# Altium integrated library ST Memory EEPROM Parallel.IntLib: 295 symbols (part 1 of 7)
Pins are listed as number, name and electrical type; pins without a type are passive.

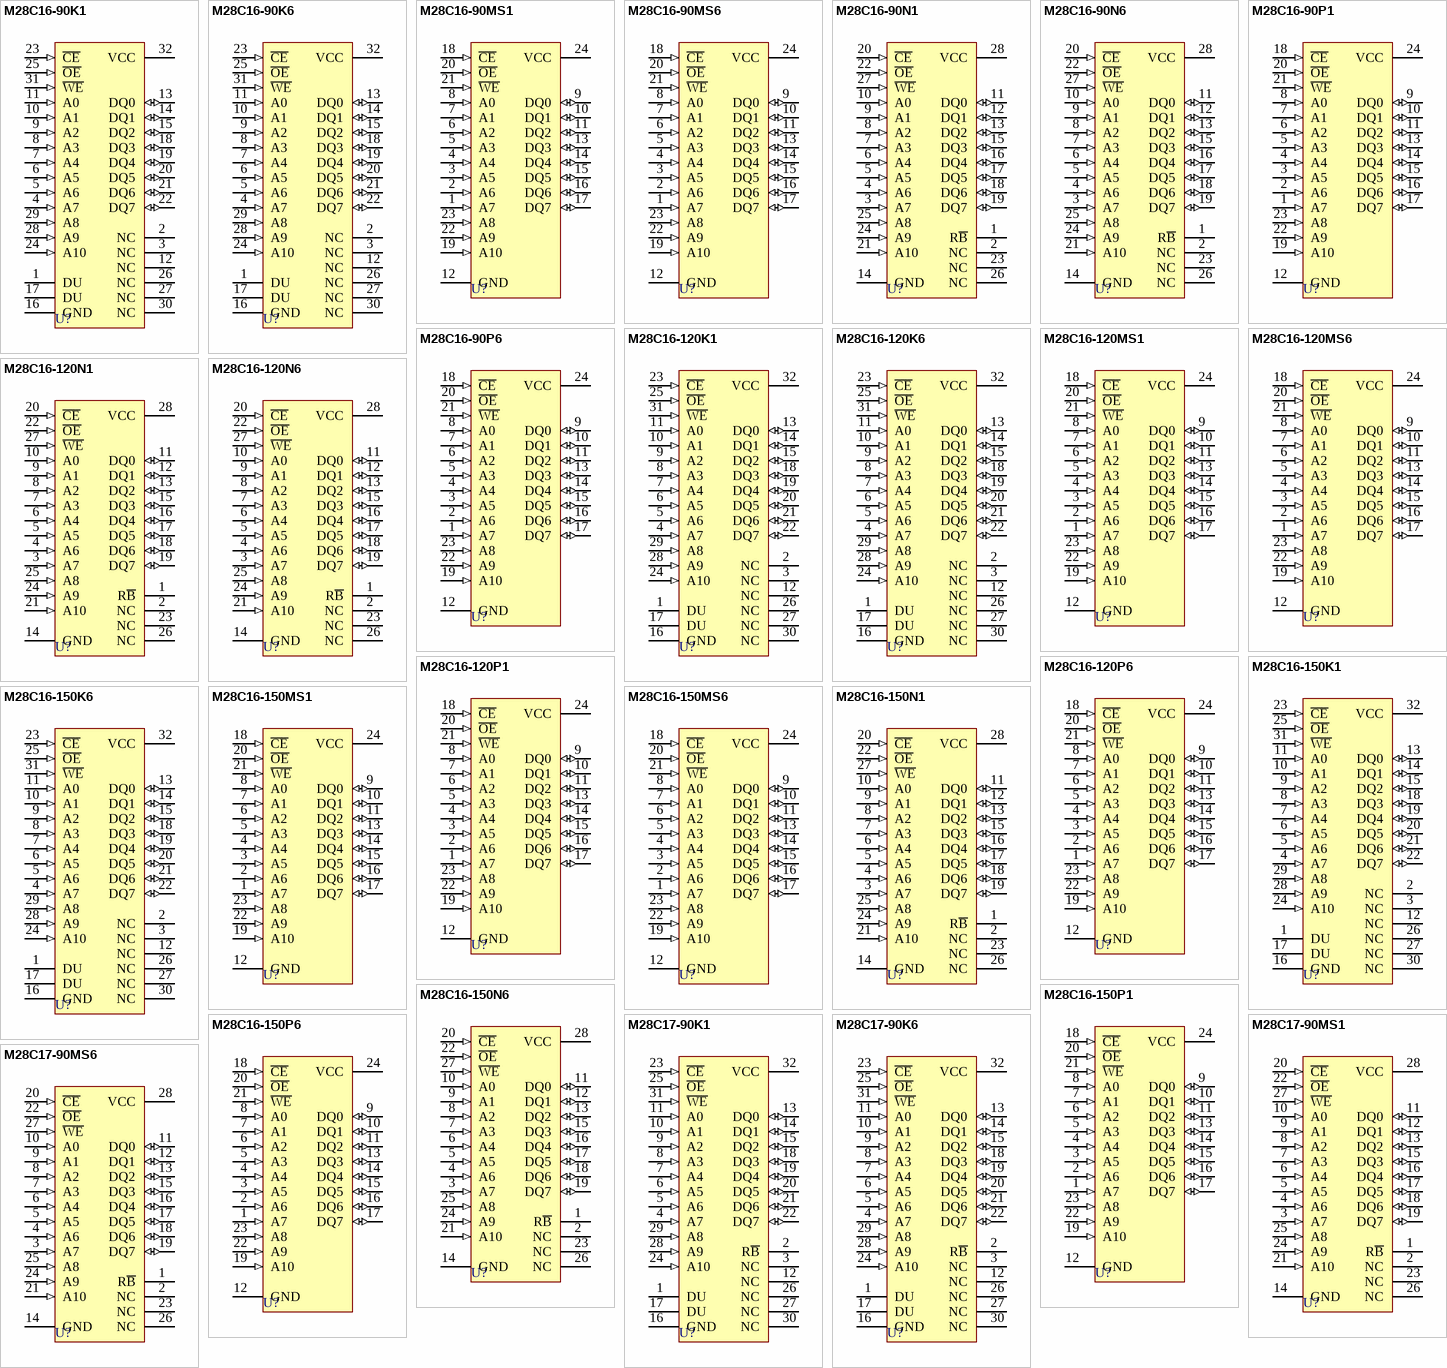
[diagram p0: symbols M28C16-90K1 to M28C17-90MS6]

## M28C16-90K1
designator U?
16K (2K x 8) Parallel EEPROM with Software Data Protection; Note: Do Not Use pins 1 and 17 (DU).; Published: 24-Aug-2001; LatestRevisionDate: 06-Jun-2005; LatestRevisionNote: Stylized 3D Model Added.; DatasheetVersion: Nov-1997; PackageVersion: Jun-1998; PackageReference: PLCC32; Publisher: Altium Limited; PackageDescription: Leaded Chip Carrier; 32 Leads; Body 11.5 x 14 mm; Code_JEDEC: MS-016-AE; Code_IPC: PLCC/R-32; ComponentLink1Description: Manufacturer Link; ComponentLink1URL: http://www.st.com/
footprint PLCC32 (Leaded Chip Carrier; 32 Leads; Body 11.5 x 14 mm)
3D model M28C16-PLCC32 (Leaded Chip Carrier; 32 Leads; Body 11.5 x 14 mm)
pins: 1 DU, 2 NC, 3 NC, 4 A7 (in), 5 A6 (in), 6 A5 (in), 7 A4 (in), 8 A3 (in), 9 A2 (in), 10 A1 (in), 11 A0 (in), 12 NC, 13 DQ0 (io), 14 DQ1 (io), 15 DQ2 (io), 16 GND (power), 17 DU, 18 DQ3 (io), 19 DQ4 (io), 20 DQ5 (io), 21 DQ6 (io), 22 DQ7 (io), 23 ~{CE} (in), 24 A10 (in), 25 ~{OE} (in), 26 NC, 27 NC, 28 A9 (in), 29 A8 (in), 30 NC, 31 ~{WE} (in), 32 VCC (power)

## M28C16-90K6
designator U?
16K (2K x 8) Parallel EEPROM with Software Data Protection; Note: Do Not Use pins 1 and 17 (DU).; Published: 24-Aug-2001; LatestRevisionDate: 06-Jun-2005; LatestRevisionNote: Stylized 3D Model Added.; DatasheetVersion: Nov-1997; PackageVersion: Jun-1998; PackageReference: PLCC32; Publisher: Altium Limited; PackageDescription: Leaded Chip Carrier; 32 Leads; Body 11.5 x 14 mm; Code_JEDEC: MS-016-AE; Code_IPC: PLCC/R-32; ComponentLink1Description: Manufacturer Link; ComponentLink1URL: http://www.st.com/
footprint PLCC32 (Leaded Chip Carrier; 32 Leads; Body 11.5 x 14 mm)
3D model M28C16-PLCC32 (Leaded Chip Carrier; 32 Leads; Body 11.5 x 14 mm)
pins: 1 DU, 2 NC, 3 NC, 4 A7 (in), 5 A6 (in), 6 A5 (in), 7 A4 (in), 8 A3 (in), 9 A2 (in), 10 A1 (in), 11 A0 (in), 12 NC, 13 DQ0 (io), 14 DQ1 (io), 15 DQ2 (io), 16 GND (power), 17 DU, 18 DQ3 (io), 19 DQ4 (io), 20 DQ5 (io), 21 DQ6 (io), 22 DQ7 (io), 23 ~{CE} (in), 24 A10 (in), 25 ~{OE} (in), 26 NC, 27 NC, 28 A9 (in), 29 A8 (in), 30 NC, 31 ~{WE} (in), 32 VCC (power)

## M28C16-90MS1
designator U?
16K (2K x 8) Parallel EEPROM with Software Data Protection; Published: 24-Aug-2001; LatestRevisionDate: 13-Apr-2006; LatestRevisionNote: IPC-7351 Footprint Added.; DatasheetVersion: Nov-1997; PackageVersion: Oct-2001; PackageReference: SO24; Publisher: Altium Limited; PackageDescription: 24-Pin Plastic Small Outline Integrated Circuit 1.27 mm Pitch; ComponentLink1Description: Manufacturer Link; ComponentLink1URL: http://www.st.com/
footprint SO24_N (SOIC, 24-Leads, Body 15.4x7.5mm, Pitch 1.27mm, IPC Medium Density)
footprint SO24_L (SOIC, 24-Leads, Body 15.4x7.5mm, Pitch 1.27mm, IPC High Density)
footprint SO24_M (SOIC, 24-Leads, Body 15.4x7.5mm, Pitch 1.27mm, IPC Low Density)
3D model SO24 (24-Pin Plastic Small Outline Integrated Circuit 1.27 mm Pitch)
pins: 1 A7 (in), 2 A6 (in), 3 A5 (in), 4 A4 (in), 5 A3 (in), 6 A2 (in), 7 A1 (in), 8 A0 (in), 9 DQ0 (io), 10 DQ1 (io), 11 DQ2 (io), 12 GND (power), 13 DQ3 (io), 14 DQ4 (io), 15 DQ5 (io), 16 DQ6 (io), 17 DQ7 (io), 18 ~{CE} (in), 19 A10 (in), 20 ~{OE} (in), 21 ~{WE} (in), 22 A9 (in), 23 A8 (in), 24 VCC (power)

## M28C16-90MS6
designator U?
16K (2K x 8) Parallel EEPROM with Software Data Protection; Published: 24-Aug-2001; LatestRevisionDate: 13-Apr-2006; LatestRevisionNote: IPC-7351 Footprint Added.; DatasheetVersion: Nov-1997; PackageVersion: Oct-2001; PackageReference: SO24; Publisher: Altium Limited; PackageDescription: 24-Pin Plastic Small Outline Integrated Circuit 1.27 mm Pitch; ComponentLink1Description: Manufacturer Link; ComponentLink1URL: http://www.st.com/
footprint SO24_N (SOIC, 24-Leads, Body 15.4x7.5mm, Pitch 1.27mm, IPC Medium Density)
footprint SO24_L (SOIC, 24-Leads, Body 15.4x7.5mm, Pitch 1.27mm, IPC High Density)
footprint SO24_M (SOIC, 24-Leads, Body 15.4x7.5mm, Pitch 1.27mm, IPC Low Density)
3D model SO24 (24-Pin Plastic Small Outline Integrated Circuit 1.27 mm Pitch)
pins: 1 A7 (in), 2 A6 (in), 3 A5 (in), 4 A4 (in), 5 A3 (in), 6 A2 (in), 7 A1 (in), 8 A0 (in), 9 DQ0 (io), 10 DQ1 (io), 11 DQ2 (io), 12 GND (power), 13 DQ3 (io), 14 DQ4 (io), 15 DQ5 (io), 16 DQ6 (io), 17 DQ7 (io), 18 ~{CE} (in), 19 A10 (in), 20 ~{OE} (in), 21 ~{WE} (in), 22 A9 (in), 23 A8 (in), 24 VCC (power)

## M28C16-90N1
designator U?
16K (2K x 8) Parallel EEPROM with Software Data Protection; Published: 24-Aug-2001; LatestRevisionDate: 06-Jun-2005; LatestRevisionNote: Stylized 3D Model Added.; DatasheetVersion: Nov-1997; PackageVersion: Jul-1998; PackageReference: TSOP28; Publisher: Altium Limited; PackageDescription: Shrink Small Outline, Plastic, Thin; 28 Leads; Body Width 11.8 mm; Pitch 0.55 mm; ComponentLink1Description: Manufacturer Link; ComponentLink1URL: http://www.st.com/
footprint TSOP28 (Shrink Small Outline, Plastic, Thin; 28 Leads; Body Width 11.8 mm; Pitch 0.55 mm)
3D model TSOP28 (Shrink Small Outline, Plastic, Thin; 28 Leads; Body Width 11.8 mm; Pitch 0.55 mm)
pins: 1 R~{B}, 2 NC, 3 A7 (in), 4 A6 (in), 5 A5 (in), 6 A4 (in), 7 A3 (in), 8 A2 (in), 9 A1 (in), 10 A0 (in), 11 DQ0 (io), 12 DQ1 (io), 13 DQ2 (io), 14 GND (power), 15 DQ3 (io), 16 DQ4 (io), 17 DQ5 (io), 18 DQ6 (io), 19 DQ7 (io), 20 ~{CE} (in), 21 A10 (in), 22 ~{OE} (in), 23 NC, 24 A9 (in), 25 A8 (in), 26 NC, 27 ~{WE} (in), 28 VCC (power)

## M28C16-90N6
designator U?
16K (2K x 8) Parallel EEPROM with Software Data Protection; Published: 24-Aug-2001; LatestRevisionDate: 06-Jun-2005; LatestRevisionNote: Stylized 3D Model Added.; DatasheetVersion: Nov-1997; PackageVersion: Jul-1998; PackageReference: TSOP28; Publisher: Altium Limited; PackageDescription: Shrink Small Outline, Plastic, Thin; 28 Leads; Body Width 11.8 mm; Pitch 0.55 mm; ComponentLink1Description: Manufacturer Link; ComponentLink1URL: http://www.st.com/
footprint TSOP28 (Shrink Small Outline, Plastic, Thin; 28 Leads; Body Width 11.8 mm; Pitch 0.55 mm)
3D model TSOP28 (Shrink Small Outline, Plastic, Thin; 28 Leads; Body Width 11.8 mm; Pitch 0.55 mm)
pins: 1 R~{B}, 2 NC, 3 A7 (in), 4 A6 (in), 5 A5 (in), 6 A4 (in), 7 A3 (in), 8 A2 (in), 9 A1 (in), 10 A0 (in), 11 DQ0 (io), 12 DQ1 (io), 13 DQ2 (io), 14 GND (power), 15 DQ3 (io), 16 DQ4 (io), 17 DQ5 (io), 18 DQ6 (io), 19 DQ7 (io), 20 ~{CE} (in), 21 A10 (in), 22 ~{OE} (in), 23 NC, 24 A9 (in), 25 A8 (in), 26 NC, 27 ~{WE} (in), 28 VCC (power)

## M28C16-90P1
designator U?
16K (2K x 8) Parallel EEPROM with Software Data Protection; Published: 24-Aug-2001; LatestRevisionDate: 06-Jun-2005; LatestRevisionNote: Stylized 3D Model Added.; DatasheetVersion: Nov-1997; PackageReference: PDIP24; Publisher: Altium Limited; PackageDescription: DIP; 24 Leads; Row Spacing 15.24 mm; Pitch 2.54 mm; ComponentLink1Description: Manufacturer Link; ComponentLink1URL: http://www.st.com/
footprint PDIP24 (DIP; 24 Leads; Row Spacing 15.24 mm; Pitch 2.54 mm)
3D model PDIP24 (DIP; 24 Leads; Row Spacing 15.24 mm; Pitch 2.54 mm)
pins: 1 A7 (in), 2 A6 (in), 3 A5 (in), 4 A4 (in), 5 A3 (in), 6 A2 (in), 7 A1 (in), 8 A0 (in), 9 DQ0 (io), 10 DQ1 (io), 11 DQ2 (io), 12 GND (power), 13 DQ3 (io), 14 DQ4 (io), 15 DQ5 (io), 16 DQ6 (io), 17 DQ7 (io), 18 ~{CE} (in), 19 A10 (in), 20 ~{OE} (in), 21 ~{WE} (in), 22 A9 (in), 23 A8 (in), 24 VCC (power)

## M28C16-90P6
designator U?
16K (2K x 8) Parallel EEPROM with Software Data Protection; Published: 24-Aug-2001; LatestRevisionDate: 06-Jun-2005; LatestRevisionNote: Stylized 3D Model Added.; DatasheetVersion: Nov-1997; PackageReference: PDIP24; Publisher: Altium Limited; PackageDescription: DIP; 24 Leads; Row Spacing 15.24 mm; Pitch 2.54 mm; ComponentLink1Description: Manufacturer Link; ComponentLink1URL: http://www.st.com/
footprint PDIP24 (DIP; 24 Leads; Row Spacing 15.24 mm; Pitch 2.54 mm)
3D model PDIP24 (DIP; 24 Leads; Row Spacing 15.24 mm; Pitch 2.54 mm)
pins: 1 A7 (in), 2 A6 (in), 3 A5 (in), 4 A4 (in), 5 A3 (in), 6 A2 (in), 7 A1 (in), 8 A0 (in), 9 DQ0 (io), 10 DQ1 (io), 11 DQ2 (io), 12 GND (power), 13 DQ3 (io), 14 DQ4 (io), 15 DQ5 (io), 16 DQ6 (io), 17 DQ7 (io), 18 ~{CE} (in), 19 A10 (in), 20 ~{OE} (in), 21 ~{WE} (in), 22 A9 (in), 23 A8 (in), 24 VCC (power)

## M28C16-120K1
designator U?
16K (2K x 8) Parallel EEPROM with Software Data Protection; Note: Do Not Use pins 1 and 17 (DU).; Published: 24-Aug-2001; LatestRevisionDate: 06-Jun-2005; LatestRevisionNote: Stylized 3D Model Added.; DatasheetVersion: Nov-1997; PackageVersion: Jun-1998; PackageReference: PLCC32; Publisher: Altium Limited; PackageDescription: Leaded Chip Carrier; 32 Leads; Body 11.5 x 14 mm; Code_JEDEC: MS-016-AE; Code_IPC: PLCC/R-32; ComponentLink1Description: Manufacturer Link; ComponentLink1URL: http://www.st.com/
footprint PLCC32 (Leaded Chip Carrier; 32 Leads; Body 11.5 x 14 mm)
3D model M28C16-PLCC32 (Leaded Chip Carrier; 32 Leads; Body 11.5 x 14 mm)
pins: 1 DU, 2 NC, 3 NC, 4 A7 (in), 5 A6 (in), 6 A5 (in), 7 A4 (in), 8 A3 (in), 9 A2 (in), 10 A1 (in), 11 A0 (in), 12 NC, 13 DQ0 (io), 14 DQ1 (io), 15 DQ2 (io), 16 GND (power), 17 DU, 18 DQ3 (io), 19 DQ4 (io), 20 DQ5 (io), 21 DQ6 (io), 22 DQ7 (io), 23 ~{CE} (in), 24 A10 (in), 25 ~{OE} (in), 26 NC, 27 NC, 28 A9 (in), 29 A8 (in), 30 NC, 31 ~{WE} (in), 32 VCC (power)

## M28C16-120K6
designator U?
16K (2K x 8) Parallel EEPROM with Software Data Protection; Note: Do Not Use pins 1 and 17 (DU).; Published: 24-Aug-2001; LatestRevisionDate: 06-Jun-2005; LatestRevisionNote: Stylized 3D Model Added.; DatasheetVersion: Nov-1997; PackageVersion: Jun-1998; PackageReference: PLCC32; Publisher: Altium Limited; PackageDescription: Leaded Chip Carrier; 32 Leads; Body 11.5 x 14 mm; Code_JEDEC: MS-016-AE; Code_IPC: PLCC/R-32; ComponentLink1Description: Manufacturer Link; ComponentLink1URL: http://www.st.com/
footprint PLCC32 (Leaded Chip Carrier; 32 Leads; Body 11.5 x 14 mm)
3D model M28C16-PLCC32 (Leaded Chip Carrier; 32 Leads; Body 11.5 x 14 mm)
pins: 1 DU, 2 NC, 3 NC, 4 A7 (in), 5 A6 (in), 6 A5 (in), 7 A4 (in), 8 A3 (in), 9 A2 (in), 10 A1 (in), 11 A0 (in), 12 NC, 13 DQ0 (io), 14 DQ1 (io), 15 DQ2 (io), 16 GND (power), 17 DU, 18 DQ3 (io), 19 DQ4 (io), 20 DQ5 (io), 21 DQ6 (io), 22 DQ7 (io), 23 ~{CE} (in), 24 A10 (in), 25 ~{OE} (in), 26 NC, 27 NC, 28 A9 (in), 29 A8 (in), 30 NC, 31 ~{WE} (in), 32 VCC (power)

## M28C16-120MS1
designator U?
16K (2K x 8) Parallel EEPROM with Software Data Protection; Published: 24-Aug-2001; LatestRevisionDate: 13-Apr-2006; LatestRevisionNote: IPC-7351 Footprint Added.; DatasheetVersion: Nov-1997; PackageVersion: Oct-2001; PackageReference: SO24; Publisher: Altium Limited; PackageDescription: 24-Pin Plastic Small Outline Integrated Circuit 1.27 mm Pitch; ComponentLink1Description: Manufacturer Link; ComponentLink1URL: http://www.st.com/
footprint SO24_N (SOIC, 24-Leads, Body 15.4x7.5mm, Pitch 1.27mm, IPC Medium Density)
footprint SO24_L (SOIC, 24-Leads, Body 15.4x7.5mm, Pitch 1.27mm, IPC High Density)
footprint SO24_M (SOIC, 24-Leads, Body 15.4x7.5mm, Pitch 1.27mm, IPC Low Density)
3D model SO24 (24-Pin Plastic Small Outline Integrated Circuit 1.27 mm Pitch)
pins: 1 A7 (in), 2 A6 (in), 3 A5 (in), 4 A4 (in), 5 A3 (in), 6 A2 (in), 7 A1 (in), 8 A0 (in), 9 DQ0 (io), 10 DQ1 (io), 11 DQ2 (io), 12 GND (power), 13 DQ3 (io), 14 DQ4 (io), 15 DQ5 (io), 16 DQ6 (io), 17 DQ7 (io), 18 ~{CE} (in), 19 A10 (in), 20 ~{OE} (in), 21 ~{WE} (in), 22 A9 (in), 23 A8 (in), 24 VCC (power)

## M28C16-120MS6
designator U?
16K (2K x 8) Parallel EEPROM with Software Data Protection; Published: 24-Aug-2001; LatestRevisionDate: 13-Apr-2006; LatestRevisionNote: IPC-7351 Footprint Added.; DatasheetVersion: Nov-1997; PackageVersion: Oct-2001; PackageReference: SO24; Publisher: Altium Limited; PackageDescription: 24-Pin Plastic Small Outline Integrated Circuit 1.27 mm Pitch; ComponentLink1Description: Manufacturer Link; ComponentLink1URL: http://www.st.com/
footprint SO24_N (SOIC, 24-Leads, Body 15.4x7.5mm, Pitch 1.27mm, IPC Medium Density)
footprint SO24_L (SOIC, 24-Leads, Body 15.4x7.5mm, Pitch 1.27mm, IPC High Density)
footprint SO24_M (SOIC, 24-Leads, Body 15.4x7.5mm, Pitch 1.27mm, IPC Low Density)
3D model SO24 (24-Pin Plastic Small Outline Integrated Circuit 1.27 mm Pitch)
pins: 1 A7 (in), 2 A6 (in), 3 A5 (in), 4 A4 (in), 5 A3 (in), 6 A2 (in), 7 A1 (in), 8 A0 (in), 9 DQ0 (io), 10 DQ1 (io), 11 DQ2 (io), 12 GND (power), 13 DQ3 (io), 14 DQ4 (io), 15 DQ5 (io), 16 DQ6 (io), 17 DQ7 (io), 18 ~{CE} (in), 19 A10 (in), 20 ~{OE} (in), 21 ~{WE} (in), 22 A9 (in), 23 A8 (in), 24 VCC (power)

## M28C16-120N1
designator U?
16K (2K x 8) Parallel EEPROM with Software Data Protection; Published: 24-Aug-2001; LatestRevisionDate: 06-Jun-2005; LatestRevisionNote: Stylized 3D Model Added.; DatasheetVersion: Nov-1997; PackageVersion: Jul-1998; PackageReference: TSOP28; Publisher: Altium Limited; PackageDescription: Shrink Small Outline, Plastic, Thin; 28 Leads; Body Width 11.8 mm; Pitch 0.55 mm; ComponentLink1Description: Manufacturer Link; ComponentLink1URL: http://www.st.com/
footprint TSOP28 (Shrink Small Outline, Plastic, Thin; 28 Leads; Body Width 11.8 mm; Pitch 0.55 mm)
3D model TSOP28 (Shrink Small Outline, Plastic, Thin; 28 Leads; Body Width 11.8 mm; Pitch 0.55 mm)
pins: 1 R~{B}, 2 NC, 3 A7 (in), 4 A6 (in), 5 A5 (in), 6 A4 (in), 7 A3 (in), 8 A2 (in), 9 A1 (in), 10 A0 (in), 11 DQ0 (io), 12 DQ1 (io), 13 DQ2 (io), 14 GND (power), 15 DQ3 (io), 16 DQ4 (io), 17 DQ5 (io), 18 DQ6 (io), 19 DQ7 (io), 20 ~{CE} (in), 21 A10 (in), 22 ~{OE} (in), 23 NC, 24 A9 (in), 25 A8 (in), 26 NC, 27 ~{WE} (in), 28 VCC (power)

## M28C16-120N6
designator U?
16K (2K x 8) Parallel EEPROM with Software Data Protection; Published: 24-Aug-2001; LatestRevisionDate: 06-Jun-2005; LatestRevisionNote: Stylized 3D Model Added.; DatasheetVersion: Nov-1997; PackageVersion: Jul-1998; PackageReference: TSOP28; Publisher: Altium Limited; PackageDescription: Shrink Small Outline, Plastic, Thin; 28 Leads; Body Width 11.8 mm; Pitch 0.55 mm; ComponentLink1Description: Manufacturer Link; ComponentLink1URL: http://www.st.com/
footprint TSOP28 (Shrink Small Outline, Plastic, Thin; 28 Leads; Body Width 11.8 mm; Pitch 0.55 mm)
3D model TSOP28 (Shrink Small Outline, Plastic, Thin; 28 Leads; Body Width 11.8 mm; Pitch 0.55 mm)
pins: 1 R~{B}, 2 NC, 3 A7 (in), 4 A6 (in), 5 A5 (in), 6 A4 (in), 7 A3 (in), 8 A2 (in), 9 A1 (in), 10 A0 (in), 11 DQ0 (io), 12 DQ1 (io), 13 DQ2 (io), 14 GND (power), 15 DQ3 (io), 16 DQ4 (io), 17 DQ5 (io), 18 DQ6 (io), 19 DQ7 (io), 20 ~{CE} (in), 21 A10 (in), 22 ~{OE} (in), 23 NC, 24 A9 (in), 25 A8 (in), 26 NC, 27 ~{WE} (in), 28 VCC (power)

## M28C16-120P1
designator U?
16K (2K x 8) Parallel EEPROM with Software Data Protection; Published: 24-Aug-2001; LatestRevisionDate: 06-Jun-2005; LatestRevisionNote: Stylized 3D Model Added.; DatasheetVersion: Nov-1997; PackageReference: PDIP24; Publisher: Altium Limited; PackageDescription: DIP; 24 Leads; Row Spacing 15.24 mm; Pitch 2.54 mm; ComponentLink1Description: Manufacturer Link; ComponentLink1URL: http://www.st.com/
footprint PDIP24 (DIP; 24 Leads; Row Spacing 15.24 mm; Pitch 2.54 mm)
3D model PDIP24 (DIP; 24 Leads; Row Spacing 15.24 mm; Pitch 2.54 mm)
pins: 1 A7 (in), 2 A6 (in), 3 A5 (in), 4 A4 (in), 5 A3 (in), 6 A2 (in), 7 A1 (in), 8 A0 (in), 9 DQ0 (io), 10 DQ1 (io), 11 DQ2 (io), 12 GND (power), 13 DQ3 (io), 14 DQ4 (io), 15 DQ5 (io), 16 DQ6 (io), 17 DQ7 (io), 18 ~{CE} (in), 19 A10 (in), 20 ~{OE} (in), 21 ~{WE} (in), 22 A9 (in), 23 A8 (in), 24 VCC (power)

## M28C16-120P6
designator U?
16K (2K x 8) Parallel EEPROM with Software Data Protection; Published: 24-Aug-2001; LatestRevisionDate: 06-Jun-2005; LatestRevisionNote: Stylized 3D Model Added.; DatasheetVersion: Nov-1997; PackageReference: PDIP24; Publisher: Altium Limited; PackageDescription: DIP; 24 Leads; Row Spacing 15.24 mm; Pitch 2.54 mm; ComponentLink1Description: Manufacturer Link; ComponentLink1URL: http://www.st.com/
footprint PDIP24 (DIP; 24 Leads; Row Spacing 15.24 mm; Pitch 2.54 mm)
3D model PDIP24 (DIP; 24 Leads; Row Spacing 15.24 mm; Pitch 2.54 mm)
pins: 1 A7 (in), 2 A6 (in), 3 A5 (in), 4 A4 (in), 5 A3 (in), 6 A2 (in), 7 A1 (in), 8 A0 (in), 9 DQ0 (io), 10 DQ1 (io), 11 DQ2 (io), 12 GND (power), 13 DQ3 (io), 14 DQ4 (io), 15 DQ5 (io), 16 DQ6 (io), 17 DQ7 (io), 18 ~{CE} (in), 19 A10 (in), 20 ~{OE} (in), 21 ~{WE} (in), 22 A9 (in), 23 A8 (in), 24 VCC (power)

## M28C16-150K1
designator U?
16K (2K x 8) Parallel EEPROM with Software Data Protection; Note: Do Not Use pins 1 and 17 (DU).; Published: 24-Aug-2001; LatestRevisionDate: 06-Jun-2005; LatestRevisionNote: Stylized 3D Model Added.; DatasheetVersion: Nov-1997; PackageVersion: Jun-1998; PackageReference: PLCC32; Publisher: Altium Limited; PackageDescription: Leaded Chip Carrier; 32 Leads; Body 11.5 x 14 mm; Code_JEDEC: MS-016-AE; Code_IPC: PLCC/R-32; ComponentLink1Description: Manufacturer Link; ComponentLink1URL: http://www.st.com/
footprint PLCC32 (Leaded Chip Carrier; 32 Leads; Body 11.5 x 14 mm)
3D model M28C16-PLCC32 (Leaded Chip Carrier; 32 Leads; Body 11.5 x 14 mm)
pins: 1 DU, 2 NC, 3 NC, 4 A7 (in), 5 A6 (in), 6 A5 (in), 7 A4 (in), 8 A3 (in), 9 A2 (in), 10 A1 (in), 11 A0 (in), 12 NC, 13 DQ0 (io), 14 DQ1 (io), 15 DQ2 (io), 16 GND (power), 17 DU, 18 DQ3 (io), 19 DQ4 (io), 20 DQ5 (io), 21 DQ6 (io), 22 DQ7 (io), 23 ~{CE} (in), 24 A10 (in), 25 ~{OE} (in), 26 NC, 27 NC, 28 A9 (in), 29 A8 (in), 30 NC, 31 ~{WE} (in), 32 VCC (power)

## M28C16-150K6
designator U?
16K (2K x 8) Parallel EEPROM with Software Data Protection; Note: Do Not Use pins 1 and 17 (DU).; Published: 24-Aug-2001; LatestRevisionDate: 06-Jun-2005; LatestRevisionNote: Stylized 3D Model Added.; DatasheetVersion: Nov-1997; PackageVersion: Jun-1998; PackageReference: PLCC32; Publisher: Altium Limited; PackageDescription: Leaded Chip Carrier; 32 Leads; Body 11.5 x 14 mm; Code_JEDEC: MS-016-AE; Code_IPC: PLCC/R-32; ComponentLink1Description: Manufacturer Link; ComponentLink1URL: http://www.st.com/
footprint PLCC32 (Leaded Chip Carrier; 32 Leads; Body 11.5 x 14 mm)
3D model M28C16-PLCC32 (Leaded Chip Carrier; 32 Leads; Body 11.5 x 14 mm)
pins: 1 DU, 2 NC, 3 NC, 4 A7 (in), 5 A6 (in), 6 A5 (in), 7 A4 (in), 8 A3 (in), 9 A2 (in), 10 A1 (in), 11 A0 (in), 12 NC, 13 DQ0 (io), 14 DQ1 (io), 15 DQ2 (io), 16 GND (power), 17 DU, 18 DQ3 (io), 19 DQ4 (io), 20 DQ5 (io), 21 DQ6 (io), 22 DQ7 (io), 23 ~{CE} (in), 24 A10 (in), 25 ~{OE} (in), 26 NC, 27 NC, 28 A9 (in), 29 A8 (in), 30 NC, 31 ~{WE} (in), 32 VCC (power)

## M28C16-150MS1
designator U?
16K (2K x 8) Parallel EEPROM with Software Data Protection; Published: 24-Aug-2001; LatestRevisionDate: 13-Apr-2006; LatestRevisionNote: IPC-7351 Footprint Added.; DatasheetVersion: Nov-1997; PackageVersion: Oct-2001; PackageReference: SO24; Publisher: Altium Limited; PackageDescription: 24-Pin Plastic Small Outline Integrated Circuit 1.27 mm Pitch; ComponentLink1Description: Manufacturer Link; ComponentLink1URL: http://www.st.com/
footprint SO24_N (SOIC, 24-Leads, Body 15.4x7.5mm, Pitch 1.27mm, IPC Medium Density)
footprint SO24_L (SOIC, 24-Leads, Body 15.4x7.5mm, Pitch 1.27mm, IPC High Density)
footprint SO24_M (SOIC, 24-Leads, Body 15.4x7.5mm, Pitch 1.27mm, IPC Low Density)
3D model SO24 (24-Pin Plastic Small Outline Integrated Circuit 1.27 mm Pitch)
pins: 1 A7 (in), 2 A6 (in), 3 A5 (in), 4 A4 (in), 5 A3 (in), 6 A2 (in), 7 A1 (in), 8 A0 (in), 9 DQ0 (io), 10 DQ1 (io), 11 DQ2 (io), 12 GND (power), 13 DQ3 (io), 14 DQ4 (io), 15 DQ5 (io), 16 DQ6 (io), 17 DQ7 (io), 18 ~{CE} (in), 19 A10 (in), 20 ~{OE} (in), 21 ~{WE} (in), 22 A9 (in), 23 A8 (in), 24 VCC (power)

## M28C16-150MS6
designator U?
16K (2K x 8) Parallel EEPROM with Software Data Protection; Published: 24-Aug-2001; LatestRevisionDate: 13-Apr-2006; LatestRevisionNote: IPC-7351 Footprint Added.; DatasheetVersion: Nov-1997; PackageVersion: Oct-2001; PackageReference: SO24; Publisher: Altium Limited; PackageDescription: 24-Pin Plastic Small Outline Integrated Circuit 1.27 mm Pitch; ComponentLink1Description: Manufacturer Link; ComponentLink1URL: http://www.st.com/
footprint SO24_N (SOIC, 24-Leads, Body 15.4x7.5mm, Pitch 1.27mm, IPC Medium Density)
footprint SO24_L (SOIC, 24-Leads, Body 15.4x7.5mm, Pitch 1.27mm, IPC High Density)
footprint SO24_M (SOIC, 24-Leads, Body 15.4x7.5mm, Pitch 1.27mm, IPC Low Density)
3D model SO24 (24-Pin Plastic Small Outline Integrated Circuit 1.27 mm Pitch)
pins: 1 A7 (in), 2 A6 (in), 3 A5 (in), 4 A4 (in), 5 A3 (in), 6 A2 (in), 7 A1 (in), 8 A0 (in), 9 DQ0 (io), 10 DQ1 (io), 11 DQ2 (io), 12 GND (power), 13 DQ3 (io), 14 DQ4 (io), 15 DQ5 (io), 16 DQ6 (io), 17 DQ7 (io), 18 ~{CE} (in), 19 A10 (in), 20 ~{OE} (in), 21 ~{WE} (in), 22 A9 (in), 23 A8 (in), 24 VCC (power)

## M28C16-150N1
designator U?
16K (2K x 8) Parallel EEPROM with Software Data Protection; Published: 24-Aug-2001; LatestRevisionDate: 06-Jun-2005; LatestRevisionNote: Stylized 3D Model Added.; DatasheetVersion: Nov-1997; PackageVersion: Jul-1998; PackageReference: TSOP28; Publisher: Altium Limited; PackageDescription: Shrink Small Outline, Plastic, Thin; 28 Leads; Body Width 11.8 mm; Pitch 0.55 mm; ComponentLink1Description: Manufacturer Link; ComponentLink1URL: http://www.st.com/
footprint TSOP28 (Shrink Small Outline, Plastic, Thin; 28 Leads; Body Width 11.8 mm; Pitch 0.55 mm)
3D model TSOP28 (Shrink Small Outline, Plastic, Thin; 28 Leads; Body Width 11.8 mm; Pitch 0.55 mm)
pins: 1 R~{B}, 2 NC, 3 A7 (in), 4 A6 (in), 5 A5 (in), 6 A4 (in), 7 A3 (in), 8 A2 (in), 9 A1 (in), 10 A0 (in), 11 DQ0 (io), 12 DQ1 (io), 13 DQ2 (io), 14 GND (power), 15 DQ3 (io), 16 DQ4 (io), 17 DQ5 (io), 18 DQ6 (io), 19 DQ7 (io), 20 ~{CE} (in), 21 A10 (in), 22 ~{OE} (in), 23 NC, 24 A9 (in), 25 A8 (in), 26 NC, 27 ~{WE} (in), 28 VCC (power)

## M28C16-150N6
designator U?
16K (2K x 8) Parallel EEPROM with Software Data Protection; Published: 24-Aug-2001; LatestRevisionDate: 06-Jun-2005; LatestRevisionNote: Stylized 3D Model Added.; DatasheetVersion: Nov-1997; PackageVersion: Jul-1998; PackageReference: TSOP28; Publisher: Altium Limited; PackageDescription: Shrink Small Outline, Plastic, Thin; 28 Leads; Body Width 11.8 mm; Pitch 0.55 mm; ComponentLink1Description: Manufacturer Link; ComponentLink1URL: http://www.st.com/
footprint TSOP28 (Shrink Small Outline, Plastic, Thin; 28 Leads; Body Width 11.8 mm; Pitch 0.55 mm)
3D model TSOP28 (Shrink Small Outline, Plastic, Thin; 28 Leads; Body Width 11.8 mm; Pitch 0.55 mm)
pins: 1 R~{B}, 2 NC, 3 A7 (in), 4 A6 (in), 5 A5 (in), 6 A4 (in), 7 A3 (in), 8 A2 (in), 9 A1 (in), 10 A0 (in), 11 DQ0 (io), 12 DQ1 (io), 13 DQ2 (io), 14 GND (power), 15 DQ3 (io), 16 DQ4 (io), 17 DQ5 (io), 18 DQ6 (io), 19 DQ7 (io), 20 ~{CE} (in), 21 A10 (in), 22 ~{OE} (in), 23 NC, 24 A9 (in), 25 A8 (in), 26 NC, 27 ~{WE} (in), 28 VCC (power)

## M28C16-150P1
designator U?
16K (2K x 8) Parallel EEPROM with Software Data Protection; Published: 24-Aug-2001; LatestRevisionDate: 06-Jun-2005; LatestRevisionNote: Stylized 3D Model Added.; DatasheetVersion: Nov-1997; PackageReference: PDIP24; Publisher: Altium Limited; PackageDescription: DIP; 24 Leads; Row Spacing 15.24 mm; Pitch 2.54 mm; ComponentLink1Description: Manufacturer Link; ComponentLink1URL: http://www.st.com/
footprint PDIP24 (DIP; 24 Leads; Row Spacing 15.24 mm; Pitch 2.54 mm)
3D model PDIP24 (DIP; 24 Leads; Row Spacing 15.24 mm; Pitch 2.54 mm)
pins: 1 A7 (in), 2 A6 (in), 3 A5 (in), 4 A4 (in), 5 A3 (in), 6 A2 (in), 7 A1 (in), 8 A0 (in), 9 DQ0 (io), 10 DQ1 (io), 11 DQ2 (io), 12 GND (power), 13 DQ3 (io), 14 DQ4 (io), 15 DQ5 (io), 16 DQ6 (io), 17 DQ7 (io), 18 ~{CE} (in), 19 A10 (in), 20 ~{OE} (in), 21 ~{WE} (in), 22 A9 (in), 23 A8 (in), 24 VCC (power)

## M28C16-150P6
designator U?
16K (2K x 8) Parallel EEPROM with Software Data Protection; Published: 24-Aug-2001; LatestRevisionDate: 06-Jun-2005; LatestRevisionNote: Stylized 3D Model Added.; DatasheetVersion: Nov-1997; PackageReference: PDIP24; Publisher: Altium Limited; PackageDescription: DIP; 24 Leads; Row Spacing 15.24 mm; Pitch 2.54 mm; ComponentLink1Description: Manufacturer Link; ComponentLink1URL: http://www.st.com/
footprint PDIP24 (DIP; 24 Leads; Row Spacing 15.24 mm; Pitch 2.54 mm)
3D model PDIP24 (DIP; 24 Leads; Row Spacing 15.24 mm; Pitch 2.54 mm)
pins: 1 A7 (in), 2 A6 (in), 3 A5 (in), 4 A4 (in), 5 A3 (in), 6 A2 (in), 7 A1 (in), 8 A0 (in), 9 DQ0 (io), 10 DQ1 (io), 11 DQ2 (io), 12 GND (power), 13 DQ3 (io), 14 DQ4 (io), 15 DQ5 (io), 16 DQ6 (io), 17 DQ7 (io), 18 ~{CE} (in), 19 A10 (in), 20 ~{OE} (in), 21 ~{WE} (in), 22 A9 (in), 23 A8 (in), 24 VCC (power)

## M28C17-90K1
designator U?
16K (2K x 8) Parallel EEPROM with Software Data Protection; Note: Do Not Use pins 1 and 17 (DU).; Published: 24-Aug-2001; LatestRevisionDate: 06-Jun-2005; LatestRevisionNote: Stylized 3D Model Added.; DatasheetVersion: Nov-1997; PackageVersion: Jun-1998; PackageReference: PLCC32; Publisher: Altium Limited; PackageDescription: Leaded Chip Carrier; 32 Leads; Body 11.5 x 14 mm; Code_JEDEC: MS-016-AE; Code_IPC: PLCC/R-32; ComponentLink1Description: Manufacturer Link; ComponentLink1URL: http://www.st.com/
footprint PLCC32 (Leaded Chip Carrier; 32 Leads; Body 11.5 x 14 mm)
3D model M28C17-PLCC32 (Leaded Chip Carrier; 32 Leads; Body 11.5 x 14 mm)
pins: 1 DU, 2 R~{B}, 3 NC, 4 A7 (in), 5 A6 (in), 6 A5 (in), 7 A4 (in), 8 A3 (in), 9 A2 (in), 10 A1 (in), 11 A0 (in), 12 NC, 13 DQ0 (io), 14 DQ1 (io), 15 DQ2 (io), 16 GND (power), 17 DU, 18 DQ3 (io), 19 DQ4 (io), 20 DQ5 (io), 21 DQ6 (io), 22 DQ7 (io), 23 ~{CE} (in), 24 A10 (in), 25 ~{OE} (in), 26 NC, 27 NC, 28 A9 (in), 29 A8 (in), 30 NC, 31 ~{WE} (in), 32 VCC (power)

## M28C17-90K6
designator U?
16K (2K x 8) Parallel EEPROM with Software Data Protection; Note: Do Not Use pins 1 and 17 (DU).; Published: 24-Aug-2001; LatestRevisionDate: 06-Jun-2005; LatestRevisionNote: Stylized 3D Model Added.; DatasheetVersion: Nov-1997; PackageVersion: Jun-1998; PackageReference: PLCC32; Publisher: Altium Limited; PackageDescription: Leaded Chip Carrier; 32 Leads; Body 11.5 x 14 mm; Code_JEDEC: MS-016-AE; Code_IPC: PLCC/R-32; ComponentLink1Description: Manufacturer Link; ComponentLink1URL: http://www.st.com/
footprint PLCC32 (Leaded Chip Carrier; 32 Leads; Body 11.5 x 14 mm)
3D model M28C17-PLCC32 (Leaded Chip Carrier; 32 Leads; Body 11.5 x 14 mm)
pins: 1 DU, 2 R~{B}, 3 NC, 4 A7 (in), 5 A6 (in), 6 A5 (in), 7 A4 (in), 8 A3 (in), 9 A2 (in), 10 A1 (in), 11 A0 (in), 12 NC, 13 DQ0 (io), 14 DQ1 (io), 15 DQ2 (io), 16 GND (power), 17 DU, 18 DQ3 (io), 19 DQ4 (io), 20 DQ5 (io), 21 DQ6 (io), 22 DQ7 (io), 23 ~{CE} (in), 24 A10 (in), 25 ~{OE} (in), 26 NC, 27 NC, 28 A9 (in), 29 A8 (in), 30 NC, 31 ~{WE} (in), 32 VCC (power)

## M28C17-90MS1
designator U?
16K (2K x 8) Parallel EEPROM with Software Data Protection; Published: 24-Aug-2001; LatestRevisionDate: 13-Apr-2006; LatestRevisionNote: IPC-7351 Footprint Added.; DatasheetVersion: Nov-1997; PackageVersion: Jul-2001; PackageReference: SO28; Publisher: Altium Limited; PackageDescription: 28-Pin Plastic Small Outline Integrated Circuit 1.27 mm Pitch; ComponentLink1Description: Manufacturer Link; ComponentLink1URL: http://www.st.com/
footprint SO28_N (SOIC, 28-Leads, Body 17.9x7.5mm, Pitch 1.27mm, IPC Medium Density)
footprint SO28_L (SOIC, 28-Leads, Body 17.9x7.5mm, Pitch 1.27mm, IPC High Density)
footprint SO28_M (SOIC, 28-Leads, Body 17.9x7.5mm, Pitch 1.27mm, IPC Low Density)
3D model SO28 (28-Pin Plastic Small Outline Integrated Circuit 1.27 mm Pitch)
pins: 1 R~{B}, 2 NC, 3 A7 (in), 4 A6 (in), 5 A5 (in), 6 A4 (in), 7 A3 (in), 8 A2 (in), 9 A1 (in), 10 A0 (in), 11 DQ0 (io), 12 DQ1 (io), 13 DQ2 (io), 14 GND (power), 15 DQ3 (io), 16 DQ4 (io), 17 DQ5 (io), 18 DQ6 (io), 19 DQ7 (io), 20 ~{CE} (in), 21 A10 (in), 22 ~{OE} (in), 23 NC, 24 A9 (in), 25 A8 (in), 26 NC, 27 ~{WE} (in), 28 VCC (power)

## M28C17-90MS6
designator U?
16K (2K x 8) Parallel EEPROM with Software Data Protection; Published: 24-Aug-2001; LatestRevisionDate: 13-Apr-2006; LatestRevisionNote: IPC-7351 Footprint Added.; DatasheetVersion: Nov-1997; PackageVersion: Jul-2001; PackageReference: SO28; Publisher: Altium Limited; PackageDescription: 28-Pin Plastic Small Outline Integrated Circuit 1.27 mm Pitch; ComponentLink1Description: Manufacturer Link; ComponentLink1URL: http://www.st.com/
footprint SO28_N (SOIC, 28-Leads, Body 17.9x7.5mm, Pitch 1.27mm, IPC Medium Density)
footprint SO28_L (SOIC, 28-Leads, Body 17.9x7.5mm, Pitch 1.27mm, IPC High Density)
footprint SO28_M (SOIC, 28-Leads, Body 17.9x7.5mm, Pitch 1.27mm, IPC Low Density)
3D model SO28 (28-Pin Plastic Small Outline Integrated Circuit 1.27 mm Pitch)
pins: 1 R~{B}, 2 NC, 3 A7 (in), 4 A6 (in), 5 A5 (in), 6 A4 (in), 7 A3 (in), 8 A2 (in), 9 A1 (in), 10 A0 (in), 11 DQ0 (io), 12 DQ1 (io), 13 DQ2 (io), 14 GND (power), 15 DQ3 (io), 16 DQ4 (io), 17 DQ5 (io), 18 DQ6 (io), 19 DQ7 (io), 20 ~{CE} (in), 21 A10 (in), 22 ~{OE} (in), 23 NC, 24 A9 (in), 25 A8 (in), 26 NC, 27 ~{WE} (in), 28 VCC (power)

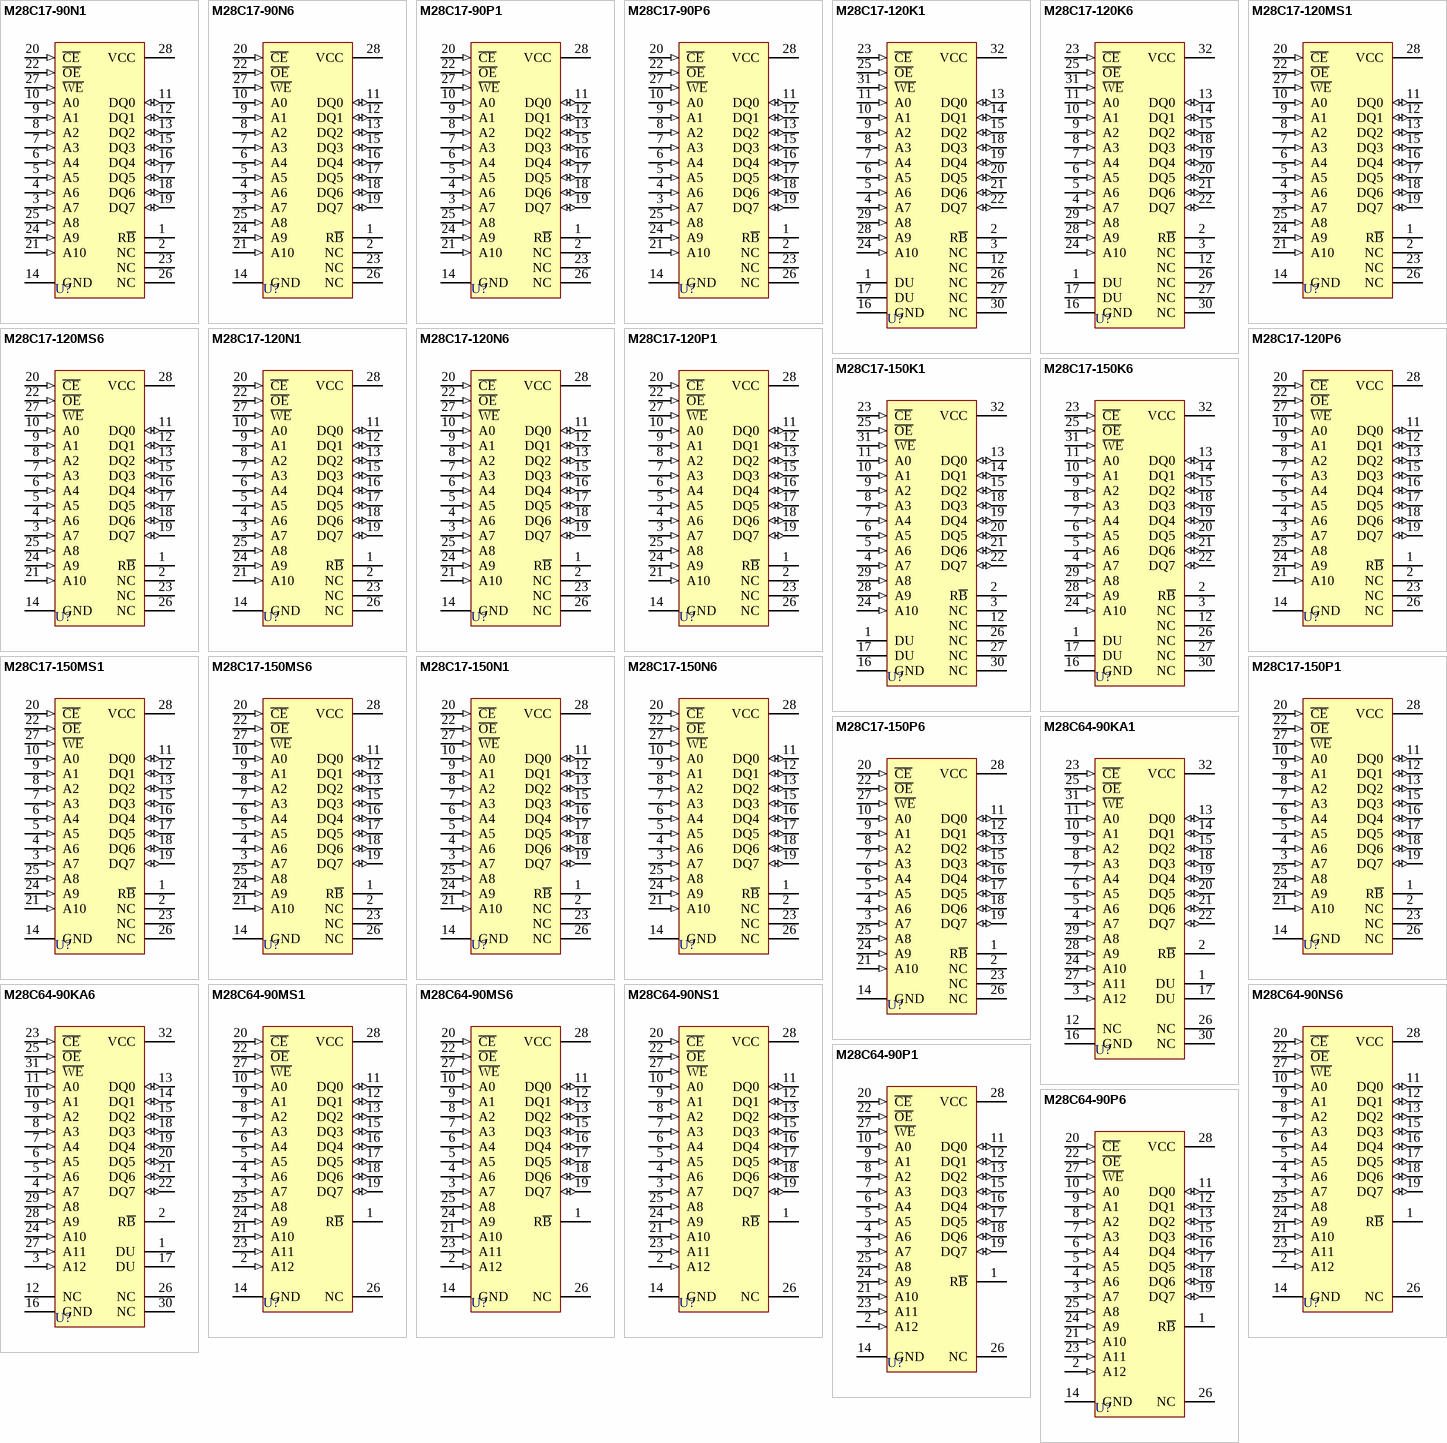
[diagram p1: symbols M28C17-90N1 to M28C64-90P6]

## M28C17-90N1
designator U?
Parallel 16K (2K x 8) EEPROM with Software Data Protection; Published: 24-Aug-2001; LatestRevisionDate: 06-Jun-2005; LatestRevisionNote: Stylized 3D Model Added.; DatasheetVersion: Jun-1996; PackageVersion: Jul-1998; PackageReference: TSOP28; Publisher: Altium Limited; PackageDescription: Shrink Small Outline, Plastic, Thin; 28 Leads; Body Width 11.8 mm; Pitch 0.55 mm; ComponentLink1Description: Manufacturer Link; ComponentLink1URL: http://www.st.com/
footprint TSOP28 (Shrink Small Outline, Plastic, Thin; 28 Leads; Body Width 11.8 mm; Pitch 0.55 mm)
3D model TSOP28 (Shrink Small Outline, Plastic, Thin; 28 Leads; Body Width 11.8 mm; Pitch 0.55 mm)
pins: 1 R~{B}, 2 NC, 3 A7 (in), 4 A6 (in), 5 A5 (in), 6 A4 (in), 7 A3 (in), 8 A2 (in), 9 A1 (in), 10 A0 (in), 11 DQ0 (io), 12 DQ1 (io), 13 DQ2 (io), 14 GND (power), 15 DQ3 (io), 16 DQ4 (io), 17 DQ5 (io), 18 DQ6 (io), 19 DQ7 (io), 20 ~{CE} (in), 21 A10 (in), 22 ~{OE} (in), 23 NC, 24 A9 (in), 25 A8 (in), 26 NC, 27 ~{WE} (in), 28 VCC (power)

## M28C17-90N6
designator U?
Parallel 16K (2K x 8) EEPROM with Software Data Protection; Published: 24-Aug-2001; LatestRevisionDate: 06-Jun-2005; LatestRevisionNote: Stylized 3D Model Added.; DatasheetVersion: Jun-1996; PackageVersion: Jul-1998; PackageReference: TSOP28; Publisher: Altium Limited; PackageDescription: Shrink Small Outline, Plastic, Thin; 28 Leads; Body Width 11.8 mm; Pitch 0.55 mm; ComponentLink1Description: Manufacturer Link; ComponentLink1URL: http://www.st.com/
footprint TSOP28 (Shrink Small Outline, Plastic, Thin; 28 Leads; Body Width 11.8 mm; Pitch 0.55 mm)
3D model TSOP28 (Shrink Small Outline, Plastic, Thin; 28 Leads; Body Width 11.8 mm; Pitch 0.55 mm)
pins: 1 R~{B}, 2 NC, 3 A7 (in), 4 A6 (in), 5 A5 (in), 6 A4 (in), 7 A3 (in), 8 A2 (in), 9 A1 (in), 10 A0 (in), 11 DQ0 (io), 12 DQ1 (io), 13 DQ2 (io), 14 GND (power), 15 DQ3 (io), 16 DQ4 (io), 17 DQ5 (io), 18 DQ6 (io), 19 DQ7 (io), 20 ~{CE} (in), 21 A10 (in), 22 ~{OE} (in), 23 NC, 24 A9 (in), 25 A8 (in), 26 NC, 27 ~{WE} (in), 28 VCC (power)

## M28C17-90P1
designator U?
16K (2K x 8) Parallel EEPROM with Software Data Protection; Published: 24-Aug-2001; LatestRevisionDate: 06-Jun-2005; LatestRevisionNote: Stylized 3D Model Added.; DatasheetVersion: Nov-1997; PackageVersion: Jan-2003; PackageReference: PDIP28; Publisher: Altium Limited; PackageDescription: DIP; 28 Leads; Row Spacing 15.24 mm; Pitch 2.54 mm; ComponentLink1Description: Manufacturer Link; ComponentLink1URL: http://www.st.com/
footprint PDIP28 (DIP; 28 Leads; Row Spacing 15.24 mm; Pitch 2.54 mm)
3D model PDIP28 (DIP; 28 Leads; Row Spacing 15.24 mm; Pitch 2.54 mm)
pins: 1 R~{B}, 2 NC, 3 A7 (in), 4 A6 (in), 5 A5 (in), 6 A4 (in), 7 A3 (in), 8 A2 (in), 9 A1 (in), 10 A0 (in), 11 DQ0 (io), 12 DQ1 (io), 13 DQ2 (io), 14 GND (power), 15 DQ3 (io), 16 DQ4 (io), 17 DQ5 (io), 18 DQ6 (io), 19 DQ7 (io), 20 ~{CE} (in), 21 A10 (in), 22 ~{OE} (in), 23 NC, 24 A9 (in), 25 A8 (in), 26 NC, 27 ~{WE} (in), 28 VCC (power)

## M28C17-90P6
designator U?
16K (2K x 8) Parallel EEPROM with Software Data Protection; Published: 24-Aug-2001; LatestRevisionDate: 06-Jun-2005; LatestRevisionNote: Stylized 3D Model Added.; DatasheetVersion: Nov-1997; PackageVersion: Jan-2003; PackageReference: PDIP28; Publisher: Altium Limited; PackageDescription: DIP; 28 Leads; Row Spacing 15.24 mm; Pitch 2.54 mm; ComponentLink1Description: Manufacturer Link; ComponentLink1URL: http://www.st.com/
footprint PDIP28 (DIP; 28 Leads; Row Spacing 15.24 mm; Pitch 2.54 mm)
3D model PDIP28 (DIP; 28 Leads; Row Spacing 15.24 mm; Pitch 2.54 mm)
pins: 1 R~{B}, 2 NC, 3 A7 (in), 4 A6 (in), 5 A5 (in), 6 A4 (in), 7 A3 (in), 8 A2 (in), 9 A1 (in), 10 A0 (in), 11 DQ0 (io), 12 DQ1 (io), 13 DQ2 (io), 14 GND (power), 15 DQ3 (io), 16 DQ4 (io), 17 DQ5 (io), 18 DQ6 (io), 19 DQ7 (io), 20 ~{CE} (in), 21 A10 (in), 22 ~{OE} (in), 23 NC, 24 A9 (in), 25 A8 (in), 26 NC, 27 ~{WE} (in), 28 VCC (power)

## M28C17-120K1
designator U?
16K (2K x 8) Parallel EEPROM with Software Data Protection; Note: Do Not Use pins 1 and 17 (DU).; Published: 24-Aug-2001; LatestRevisionDate: 06-Jun-2005; LatestRevisionNote: Stylized 3D Model Added.; DatasheetVersion: Nov-1997; PackageVersion: Jun-1998; PackageReference: PLCC32; Publisher: Altium Limited; PackageDescription: Leaded Chip Carrier; 32 Leads; Body 11.5 x 14 mm; Code_JEDEC: MS-016-AE; Code_IPC: PLCC/R-32; ComponentLink1Description: Manufacturer Link; ComponentLink1URL: http://www.st.com/
footprint PLCC32 (Leaded Chip Carrier; 32 Leads; Body 11.5 x 14 mm)
3D model M28C17-PLCC32 (Leaded Chip Carrier; 32 Leads; Body 11.5 x 14 mm)
pins: 1 DU, 2 R~{B}, 3 NC, 4 A7 (in), 5 A6 (in), 6 A5 (in), 7 A4 (in), 8 A3 (in), 9 A2 (in), 10 A1 (in), 11 A0 (in), 12 NC, 13 DQ0 (io), 14 DQ1 (io), 15 DQ2 (io), 16 GND (power), 17 DU, 18 DQ3 (io), 19 DQ4 (io), 20 DQ5 (io), 21 DQ6 (io), 22 DQ7 (io), 23 ~{CE} (in), 24 A10 (in), 25 ~{OE} (in), 26 NC, 27 NC, 28 A9 (in), 29 A8 (in), 30 NC, 31 ~{WE} (in), 32 VCC (power)

## M28C17-120K6
designator U?
16K (2K x 8) Parallel EEPROM with Software Data Protection; Note: Do Not Use pins 1 and 17 (DU).; Published: 24-Aug-2001; LatestRevisionDate: 06-Jun-2005; LatestRevisionNote: Stylized 3D Model Added.; DatasheetVersion: Nov-1997; PackageVersion: Jun-1998; PackageReference: PLCC32; Publisher: Altium Limited; PackageDescription: Leaded Chip Carrier; 32 Leads; Body 11.5 x 14 mm; Code_JEDEC: MS-016-AE; Code_IPC: PLCC/R-32; ComponentLink1Description: Manufacturer Link; ComponentLink1URL: http://www.st.com/
footprint PLCC32 (Leaded Chip Carrier; 32 Leads; Body 11.5 x 14 mm)
3D model M28C17-PLCC32 (Leaded Chip Carrier; 32 Leads; Body 11.5 x 14 mm)
pins: 1 DU, 2 R~{B}, 3 NC, 4 A7 (in), 5 A6 (in), 6 A5 (in), 7 A4 (in), 8 A3 (in), 9 A2 (in), 10 A1 (in), 11 A0 (in), 12 NC, 13 DQ0 (io), 14 DQ1 (io), 15 DQ2 (io), 16 GND (power), 17 DU, 18 DQ3 (io), 19 DQ4 (io), 20 DQ5 (io), 21 DQ6 (io), 22 DQ7 (io), 23 ~{CE} (in), 24 A10 (in), 25 ~{OE} (in), 26 NC, 27 NC, 28 A9 (in), 29 A8 (in), 30 NC, 31 ~{WE} (in), 32 VCC (power)

## M28C17-120MS1
designator U?
16K (2K x 8) Parallel EEPROM with Software Data Protection; Published: 24-Aug-2001; LatestRevisionDate: 13-Apr-2006; LatestRevisionNote: IPC-7351 Footprint Added.; DatasheetVersion: Nov-1997; PackageVersion: Jul-2001; PackageReference: SO28; Publisher: Altium Limited; PackageDescription: 28-Pin Plastic Small Outline Integrated Circuit 1.27 mm Pitch; ComponentLink1Description: Manufacturer Link; ComponentLink1URL: http://www.st.com/
footprint SO28_N (SOIC, 28-Leads, Body 17.9x7.5mm, Pitch 1.27mm, IPC Medium Density)
footprint SO28_L (SOIC, 28-Leads, Body 17.9x7.5mm, Pitch 1.27mm, IPC High Density)
footprint SO28_M (SOIC, 28-Leads, Body 17.9x7.5mm, Pitch 1.27mm, IPC Low Density)
3D model SO28 (28-Pin Plastic Small Outline Integrated Circuit 1.27 mm Pitch)
pins: 1 R~{B}, 2 NC, 3 A7 (in), 4 A6 (in), 5 A5 (in), 6 A4 (in), 7 A3 (in), 8 A2 (in), 9 A1 (in), 10 A0 (in), 11 DQ0 (io), 12 DQ1 (io), 13 DQ2 (io), 14 GND (power), 15 DQ3 (io), 16 DQ4 (io), 17 DQ5 (io), 18 DQ6 (io), 19 DQ7 (io), 20 ~{CE} (in), 21 A10 (in), 22 ~{OE} (in), 23 NC, 24 A9 (in), 25 A8 (in), 26 NC, 27 ~{WE} (in), 28 VCC (power)

## M28C17-120MS6
designator U?
16K (2K x 8) Parallel EEPROM with Software Data Protection; Published: 24-Aug-2001; LatestRevisionDate: 13-Apr-2006; LatestRevisionNote: IPC-7351 Footprint Added.; DatasheetVersion: Nov-1997; PackageVersion: Jul-2001; PackageReference: SO28; Publisher: Altium Limited; PackageDescription: 28-Pin Plastic Small Outline Integrated Circuit 1.27 mm Pitch; ComponentLink1Description: Manufacturer Link; ComponentLink1URL: http://www.st.com/
footprint SO28_N (SOIC, 28-Leads, Body 17.9x7.5mm, Pitch 1.27mm, IPC Medium Density)
footprint SO28_L (SOIC, 28-Leads, Body 17.9x7.5mm, Pitch 1.27mm, IPC High Density)
footprint SO28_M (SOIC, 28-Leads, Body 17.9x7.5mm, Pitch 1.27mm, IPC Low Density)
3D model SO28 (28-Pin Plastic Small Outline Integrated Circuit 1.27 mm Pitch)
pins: 1 R~{B}, 2 NC, 3 A7 (in), 4 A6 (in), 5 A5 (in), 6 A4 (in), 7 A3 (in), 8 A2 (in), 9 A1 (in), 10 A0 (in), 11 DQ0 (io), 12 DQ1 (io), 13 DQ2 (io), 14 GND (power), 15 DQ3 (io), 16 DQ4 (io), 17 DQ5 (io), 18 DQ6 (io), 19 DQ7 (io), 20 ~{CE} (in), 21 A10 (in), 22 ~{OE} (in), 23 NC, 24 A9 (in), 25 A8 (in), 26 NC, 27 ~{WE} (in), 28 VCC (power)

## M28C17-120N1
designator U?
Parallel 16K (2K x 8) EEPROM with Software Data Protection; Published: 24-Aug-2001; LatestRevisionDate: 06-Jun-2005; LatestRevisionNote: Stylized 3D Model Added.; DatasheetVersion: Jun-1996; PackageVersion: Jul-1998; PackageReference: TSOP28; Publisher: Altium Limited; PackageDescription: Shrink Small Outline, Plastic, Thin; 28 Leads; Body Width 11.8 mm; Pitch 0.55 mm; ComponentLink1Description: Manufacturer Link; ComponentLink1URL: http://www.st.com/
footprint TSOP28 (Shrink Small Outline, Plastic, Thin; 28 Leads; Body Width 11.8 mm; Pitch 0.55 mm)
3D model TSOP28 (Shrink Small Outline, Plastic, Thin; 28 Leads; Body Width 11.8 mm; Pitch 0.55 mm)
pins: 1 R~{B}, 2 NC, 3 A7 (in), 4 A6 (in), 5 A5 (in), 6 A4 (in), 7 A3 (in), 8 A2 (in), 9 A1 (in), 10 A0 (in), 11 DQ0 (io), 12 DQ1 (io), 13 DQ2 (io), 14 GND (power), 15 DQ3 (io), 16 DQ4 (io), 17 DQ5 (io), 18 DQ6 (io), 19 DQ7 (io), 20 ~{CE} (in), 21 A10 (in), 22 ~{OE} (in), 23 NC, 24 A9 (in), 25 A8 (in), 26 NC, 27 ~{WE} (in), 28 VCC (power)

## M28C17-120N6
designator U?
Parallel 16K (2K x 8) EEPROM with Software Data Protection; Published: 24-Aug-2001; LatestRevisionDate: 06-Jun-2005; LatestRevisionNote: Stylized 3D Model Added.; DatasheetVersion: Jun-1996; PackageVersion: Jul-1998; PackageReference: TSOP28; Publisher: Altium Limited; PackageDescription: Shrink Small Outline, Plastic, Thin; 28 Leads; Body Width 11.8 mm; Pitch 0.55 mm; ComponentLink1Description: Manufacturer Link; ComponentLink1URL: http://www.st.com/
footprint TSOP28 (Shrink Small Outline, Plastic, Thin; 28 Leads; Body Width 11.8 mm; Pitch 0.55 mm)
3D model TSOP28 (Shrink Small Outline, Plastic, Thin; 28 Leads; Body Width 11.8 mm; Pitch 0.55 mm)
pins: 1 R~{B}, 2 NC, 3 A7 (in), 4 A6 (in), 5 A5 (in), 6 A4 (in), 7 A3 (in), 8 A2 (in), 9 A1 (in), 10 A0 (in), 11 DQ0 (io), 12 DQ1 (io), 13 DQ2 (io), 14 GND (power), 15 DQ3 (io), 16 DQ4 (io), 17 DQ5 (io), 18 DQ6 (io), 19 DQ7 (io), 20 ~{CE} (in), 21 A10 (in), 22 ~{OE} (in), 23 NC, 24 A9 (in), 25 A8 (in), 26 NC, 27 ~{WE} (in), 28 VCC (power)

## M28C17-120P1
designator U?
16K (2K x 8) Parallel EEPROM with Software Data Protection; Published: 24-Aug-2001; LatestRevisionDate: 06-Jun-2005; LatestRevisionNote: Stylized 3D Model Added.; DatasheetVersion: Nov-1997; PackageVersion: Jan-2003; PackageReference: PDIP28; Publisher: Altium Limited; PackageDescription: DIP; 28 Leads; Row Spacing 15.24 mm; Pitch 2.54 mm; ComponentLink1Description: Manufacturer Link; ComponentLink1URL: http://www.st.com/
footprint PDIP28 (DIP; 28 Leads; Row Spacing 15.24 mm; Pitch 2.54 mm)
3D model PDIP28 (DIP; 28 Leads; Row Spacing 15.24 mm; Pitch 2.54 mm)
pins: 1 R~{B}, 2 NC, 3 A7 (in), 4 A6 (in), 5 A5 (in), 6 A4 (in), 7 A3 (in), 8 A2 (in), 9 A1 (in), 10 A0 (in), 11 DQ0 (io), 12 DQ1 (io), 13 DQ2 (io), 14 GND (power), 15 DQ3 (io), 16 DQ4 (io), 17 DQ5 (io), 18 DQ6 (io), 19 DQ7 (io), 20 ~{CE} (in), 21 A10 (in), 22 ~{OE} (in), 23 NC, 24 A9 (in), 25 A8 (in), 26 NC, 27 ~{WE} (in), 28 VCC (power)

## M28C17-120P6
designator U?
16K (2K x 8) Parallel EEPROM with Software Data Protection; Published: 24-Aug-2001; LatestRevisionDate: 06-Jun-2005; LatestRevisionNote: Stylized 3D Model Added.; DatasheetVersion: Nov-1997; PackageVersion: Jan-2003; PackageReference: PDIP28; Publisher: Altium Limited; PackageDescription: DIP; 28 Leads; Row Spacing 15.24 mm; Pitch 2.54 mm; ComponentLink1Description: Manufacturer Link; ComponentLink1URL: http://www.st.com/
footprint PDIP28 (DIP; 28 Leads; Row Spacing 15.24 mm; Pitch 2.54 mm)
3D model PDIP28 (DIP; 28 Leads; Row Spacing 15.24 mm; Pitch 2.54 mm)
pins: 1 R~{B}, 2 NC, 3 A7 (in), 4 A6 (in), 5 A5 (in), 6 A4 (in), 7 A3 (in), 8 A2 (in), 9 A1 (in), 10 A0 (in), 11 DQ0 (io), 12 DQ1 (io), 13 DQ2 (io), 14 GND (power), 15 DQ3 (io), 16 DQ4 (io), 17 DQ5 (io), 18 DQ6 (io), 19 DQ7 (io), 20 ~{CE} (in), 21 A10 (in), 22 ~{OE} (in), 23 NC, 24 A9 (in), 25 A8 (in), 26 NC, 27 ~{WE} (in), 28 VCC (power)

## M28C17-150K1
designator U?
16K (2K x 8) Parallel EEPROM with Software Data Protection; Note: Do Not Use pins 1 and 17 (DU).; Published: 24-Aug-2001; LatestRevisionDate: 06-Jun-2005; LatestRevisionNote: Stylized 3D Model Added.; DatasheetVersion: Nov-1997; PackageVersion: Jun-1998; PackageReference: PLCC32; Publisher: Altium Limited; PackageDescription: Leaded Chip Carrier; 32 Leads; Body 11.5 x 14 mm; Code_JEDEC: MS-016-AE; Code_IPC: PLCC/R-32; ComponentLink1Description: Manufacturer Link; ComponentLink1URL: http://www.st.com/
footprint PLCC32 (Leaded Chip Carrier; 32 Leads; Body 11.5 x 14 mm)
3D model M28C17-PLCC32 (Leaded Chip Carrier; 32 Leads; Body 11.5 x 14 mm)
pins: 1 DU, 2 R~{B}, 3 NC, 4 A7 (in), 5 A6 (in), 6 A5 (in), 7 A4 (in), 8 A3 (in), 9 A2 (in), 10 A1 (in), 11 A0 (in), 12 NC, 13 DQ0 (io), 14 DQ1 (io), 15 DQ2 (io), 16 GND (power), 17 DU, 18 DQ3 (io), 19 DQ4 (io), 20 DQ5 (io), 21 DQ6 (io), 22 DQ7 (io), 23 ~{CE} (in), 24 A10 (in), 25 ~{OE} (in), 26 NC, 27 NC, 28 A9 (in), 29 A8 (in), 30 NC, 31 ~{WE} (in), 32 VCC (power)

## M28C17-150K6
designator U?
16K (2K x 8) Parallel EEPROM with Software Data Protection; Note: Do Not Use pins 1 and 17 (DU).; Published: 24-Aug-2001; LatestRevisionDate: 06-Jun-2005; LatestRevisionNote: Stylized 3D Model Added.; DatasheetVersion: Nov-1997; PackageVersion: Jun-1998; PackageReference: PLCC32; Publisher: Altium Limited; PackageDescription: Leaded Chip Carrier; 32 Leads; Body 11.5 x 14 mm; Code_JEDEC: MS-016-AE; Code_IPC: PLCC/R-32; ComponentLink1Description: Manufacturer Link; ComponentLink1URL: http://www.st.com/
footprint PLCC32 (Leaded Chip Carrier; 32 Leads; Body 11.5 x 14 mm)
3D model M28C17-PLCC32 (Leaded Chip Carrier; 32 Leads; Body 11.5 x 14 mm)
pins: 1 DU, 2 R~{B}, 3 NC, 4 A7 (in), 5 A6 (in), 6 A5 (in), 7 A4 (in), 8 A3 (in), 9 A2 (in), 10 A1 (in), 11 A0 (in), 12 NC, 13 DQ0 (io), 14 DQ1 (io), 15 DQ2 (io), 16 GND (power), 17 DU, 18 DQ3 (io), 19 DQ4 (io), 20 DQ5 (io), 21 DQ6 (io), 22 DQ7 (io), 23 ~{CE} (in), 24 A10 (in), 25 ~{OE} (in), 26 NC, 27 NC, 28 A9 (in), 29 A8 (in), 30 NC, 31 ~{WE} (in), 32 VCC (power)

## M28C17-150MS1
designator U?
16K (2K x 8) Parallel EEPROM with Software Data Protection; Published: 24-Aug-2001; LatestRevisionDate: 13-Apr-2006; LatestRevisionNote: IPC-7351 Footprint Added.; DatasheetVersion: Nov-1997; PackageVersion: Jul-2001; PackageReference: SO28; Publisher: Altium Limited; PackageDescription: 28-Pin Plastic Small Outline Integrated Circuit 1.27 mm Pitch; ComponentLink1Description: Manufacturer Link; ComponentLink1URL: http://www.st.com/
footprint SO28_N (SOIC, 28-Leads, Body 17.9x7.5mm, Pitch 1.27mm, IPC Medium Density)
footprint SO28_L (SOIC, 28-Leads, Body 17.9x7.5mm, Pitch 1.27mm, IPC High Density)
footprint SO28_M (SOIC, 28-Leads, Body 17.9x7.5mm, Pitch 1.27mm, IPC Low Density)
3D model SO28 (28-Pin Plastic Small Outline Integrated Circuit 1.27 mm Pitch)
pins: 1 R~{B}, 2 NC, 3 A7 (in), 4 A6 (in), 5 A5 (in), 6 A4 (in), 7 A3 (in), 8 A2 (in), 9 A1 (in), 10 A0 (in), 11 DQ0 (io), 12 DQ1 (io), 13 DQ2 (io), 14 GND (power), 15 DQ3 (io), 16 DQ4 (io), 17 DQ5 (io), 18 DQ6 (io), 19 DQ7 (io), 20 ~{CE} (in), 21 A10 (in), 22 ~{OE} (in), 23 NC, 24 A9 (in), 25 A8 (in), 26 NC, 27 ~{WE} (in), 28 VCC (power)

## M28C17-150MS6
designator U?
16K (2K x 8) Parallel EEPROM with Software Data Protection; Published: 24-Aug-2001; LatestRevisionDate: 13-Apr-2006; LatestRevisionNote: IPC-7351 Footprint Added.; DatasheetVersion: Nov-1997; PackageVersion: Jul-2001; PackageReference: SO28; Publisher: Altium Limited; PackageDescription: 28-Pin Plastic Small Outline Integrated Circuit 1.27 mm Pitch; ComponentLink1Description: Manufacturer Link; ComponentLink1URL: http://www.st.com/
footprint SO28_N (SOIC, 28-Leads, Body 17.9x7.5mm, Pitch 1.27mm, IPC Medium Density)
footprint SO28_L (SOIC, 28-Leads, Body 17.9x7.5mm, Pitch 1.27mm, IPC High Density)
footprint SO28_M (SOIC, 28-Leads, Body 17.9x7.5mm, Pitch 1.27mm, IPC Low Density)
3D model SO28 (28-Pin Plastic Small Outline Integrated Circuit 1.27 mm Pitch)
pins: 1 R~{B}, 2 NC, 3 A7 (in), 4 A6 (in), 5 A5 (in), 6 A4 (in), 7 A3 (in), 8 A2 (in), 9 A1 (in), 10 A0 (in), 11 DQ0 (io), 12 DQ1 (io), 13 DQ2 (io), 14 GND (power), 15 DQ3 (io), 16 DQ4 (io), 17 DQ5 (io), 18 DQ6 (io), 19 DQ7 (io), 20 ~{CE} (in), 21 A10 (in), 22 ~{OE} (in), 23 NC, 24 A9 (in), 25 A8 (in), 26 NC, 27 ~{WE} (in), 28 VCC (power)

## M28C17-150N1
designator U?
Parallel 16K (2K x 8) EEPROM with Software Data Protection; Published: 24-Aug-2001; LatestRevisionDate: 06-Jun-2005; LatestRevisionNote: Stylized 3D Model Added.; DatasheetVersion: Jun-1996; PackageVersion: Jul-1998; PackageReference: TSOP28; Publisher: Altium Limited; PackageDescription: Shrink Small Outline, Plastic, Thin; 28 Leads; Body Width 11.8 mm; Pitch 0.55 mm; ComponentLink1Description: Manufacturer Link; ComponentLink1URL: http://www.st.com/
footprint TSOP28 (Shrink Small Outline, Plastic, Thin; 28 Leads; Body Width 11.8 mm; Pitch 0.55 mm)
3D model TSOP28 (Shrink Small Outline, Plastic, Thin; 28 Leads; Body Width 11.8 mm; Pitch 0.55 mm)
pins: 1 R~{B}, 2 NC, 3 A7 (in), 4 A6 (in), 5 A5 (in), 6 A4 (in), 7 A3 (in), 8 A2 (in), 9 A1 (in), 10 A0 (in), 11 DQ0 (io), 12 DQ1 (io), 13 DQ2 (io), 14 GND (power), 15 DQ3 (io), 16 DQ4 (io), 17 DQ5 (io), 18 DQ6 (io), 19 DQ7 (io), 20 ~{CE} (in), 21 A10 (in), 22 ~{OE} (in), 23 NC, 24 A9 (in), 25 A8 (in), 26 NC, 27 ~{WE} (in), 28 VCC (power)

## M28C17-150N6
designator U?
Parallel 16K (2K x 8) EEPROM with Software Data Protection; Published: 24-Aug-2001; LatestRevisionDate: 06-Jun-2005; LatestRevisionNote: Stylized 3D Model Added.; DatasheetVersion: Jun-1996; PackageVersion: Jul-1998; PackageReference: TSOP28; Publisher: Altium Limited; PackageDescription: Shrink Small Outline, Plastic, Thin; 28 Leads; Body Width 11.8 mm; Pitch 0.55 mm; ComponentLink1Description: Manufacturer Link; ComponentLink1URL: http://www.st.com/
footprint TSOP28 (Shrink Small Outline, Plastic, Thin; 28 Leads; Body Width 11.8 mm; Pitch 0.55 mm)
3D model TSOP28 (Shrink Small Outline, Plastic, Thin; 28 Leads; Body Width 11.8 mm; Pitch 0.55 mm)
pins: 1 R~{B}, 2 NC, 3 A7 (in), 4 A6 (in), 5 A5 (in), 6 A4 (in), 7 A3 (in), 8 A2 (in), 9 A1 (in), 10 A0 (in), 11 DQ0 (io), 12 DQ1 (io), 13 DQ2 (io), 14 GND (power), 15 DQ3 (io), 16 DQ4 (io), 17 DQ5 (io), 18 DQ6 (io), 19 DQ7 (io), 20 ~{CE} (in), 21 A10 (in), 22 ~{OE} (in), 23 NC, 24 A9 (in), 25 A8 (in), 26 NC, 27 ~{WE} (in), 28 VCC (power)

## M28C17-150P1
designator U?
16K (2K x 8) Parallel EEPROM with Software Data Protection; Published: 24-Aug-2001; LatestRevisionDate: 06-Jun-2005; LatestRevisionNote: Stylized 3D Model Added.; DatasheetVersion: Nov-1997; PackageVersion: Jan-2003; PackageReference: PDIP28; Publisher: Altium Limited; PackageDescription: DIP; 28 Leads; Row Spacing 15.24 mm; Pitch 2.54 mm; ComponentLink1Description: Manufacturer Link; ComponentLink1URL: http://www.st.com/
footprint PDIP28 (DIP; 28 Leads; Row Spacing 15.24 mm; Pitch 2.54 mm)
3D model PDIP28 (DIP; 28 Leads; Row Spacing 15.24 mm; Pitch 2.54 mm)
pins: 1 R~{B}, 2 NC, 3 A7 (in), 4 A6 (in), 5 A5 (in), 6 A4 (in), 7 A3 (in), 8 A2 (in), 9 A1 (in), 10 A0 (in), 11 DQ0 (io), 12 DQ1 (io), 13 DQ2 (io), 14 GND (power), 15 DQ3 (io), 16 DQ4 (io), 17 DQ5 (io), 18 DQ6 (io), 19 DQ7 (io), 20 ~{CE} (in), 21 A10 (in), 22 ~{OE} (in), 23 NC, 24 A9 (in), 25 A8 (in), 26 NC, 27 ~{WE} (in), 28 VCC (power)

## M28C17-150P6
designator U?
16K (2K x 8) Parallel EEPROM with Software Data Protection; Published: 24-Aug-2001; LatestRevisionDate: 06-Jun-2005; LatestRevisionNote: Stylized 3D Model Added.; DatasheetVersion: Nov-1997; PackageVersion: Jan-2003; PackageReference: PDIP28; Publisher: Altium Limited; PackageDescription: DIP; 28 Leads; Row Spacing 15.24 mm; Pitch 2.54 mm; ComponentLink1Description: Manufacturer Link; ComponentLink1URL: http://www.st.com/
footprint PDIP28 (DIP; 28 Leads; Row Spacing 15.24 mm; Pitch 2.54 mm)
3D model PDIP28 (DIP; 28 Leads; Row Spacing 15.24 mm; Pitch 2.54 mm)
pins: 1 R~{B}, 2 NC, 3 A7 (in), 4 A6 (in), 5 A5 (in), 6 A4 (in), 7 A3 (in), 8 A2 (in), 9 A1 (in), 10 A0 (in), 11 DQ0 (io), 12 DQ1 (io), 13 DQ2 (io), 14 GND (power), 15 DQ3 (io), 16 DQ4 (io), 17 DQ5 (io), 18 DQ6 (io), 19 DQ7 (io), 20 ~{CE} (in), 21 A10 (in), 22 ~{OE} (in), 23 NC, 24 A9 (in), 25 A8 (in), 26 NC, 27 ~{WE} (in), 28 VCC (power)